# Altium schematic symbol library TLP291-4.Schlib: 1 symbol
Pins are listed as number, name and electrical type; pins without a type are passive.

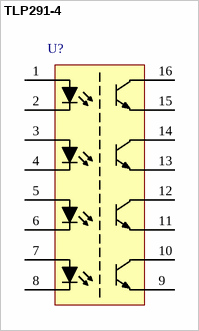
[diagram p0: symbol TLP291-4]

## TLP291-4
designator U?  (value not drawn)
Photo Transistor Array
pins: 1, 2, 3, 4, 5, 6, 7, 8, 9, 10, 11, 12, 13, 14, 15, 16